# Altium footprint library 453lib.PcbLib: 18 footprints (part 1 of 2)
Each footprint in its own frame and in the unit in brackets; x right, y up, seen from the top. Pads: shape width x height; smd on the part's side, far side on the other; paste and mask are expansions set on the pad; w line width, h text height; cw(c..) or ccw(c..) is an arc to the next point about the centre after c.
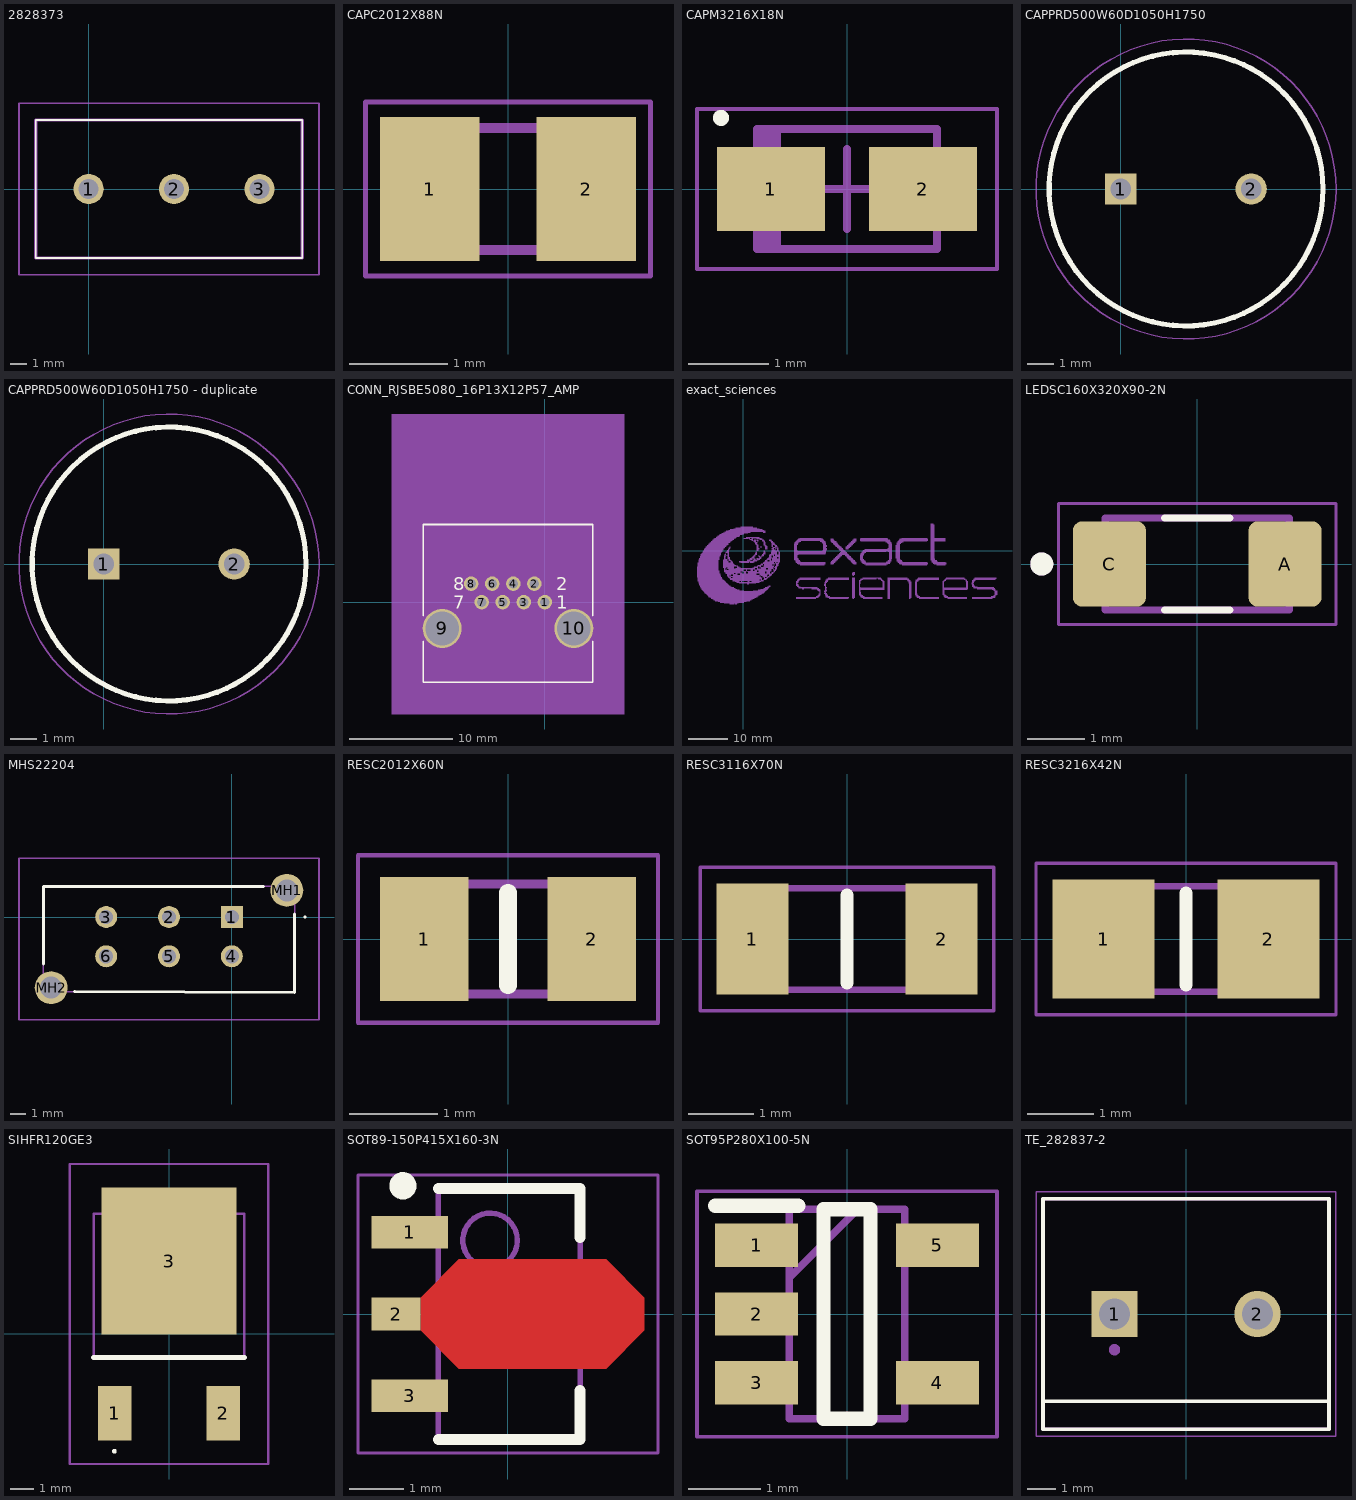
[diagram p0: the footprints below, top view; thin cyan lines are the x and y axes]

## 2828373 [mm]
pads (3):
  round 1.8 hole 1.2: 1(0,0) 2(5.08,0) 3(10.16,0)
Top Overlay:
  lines w0.1: -3.14,-4.1 -3.14,4.1 12.7,4.1 12.7,-4.1 -3.14,-4.1
Mechanical 13:
  lines w0.2: -3.14,-4.1 -3.14,4.1 12.7,4.1 12.7,-4.1 -3.14,-4.1
Mechanical 15:
  lines w0.1: -4.14,-5.1 -4.14,5.1 13.7,5.1 13.7,-5.1 -4.14,-5.1
3D body "282837-3.stp": height 9.97, standoff -3.53, extent -3.14,-4.1 12.7,4.1

## CAPC2012X88N [mm]
pads (2):
  rect 1.02x1.47 smd: 1(-0.8,0) 2(0.8,0)
Mechanical 13:
  lines w0.1: -1,-0.625 1,-0.625 1,0.625 -1,0.625 -1,-0.625
Mechanical 15:
  lines w0.05: -1.46,-0.89 1.46,-0.89 1.46,0.89 -1.46,0.89 -1.46,-0.89
3D body "C0805C104K8RACAUTO.stp": height 0.88, standoff 0, extent -1,-0.625 1,0.625

## CAPM3216X18N [mm]
height 1.2
pads (2):
  rect 1.35x1.05 smd: 1(-0.95,0) 2(0.95,0)
Top Overlay:
  circle w0.1: c-1.575,0.889 r0.05
Mechanical 13:
  rectangle: -1.125,-0.75 -0.822,0.75
  lines w0.1: -1.125,-0.75 1.125,-0.75 1.125,0.75 -1.125,0.75 -1.125,-0.75
Mechanical 15:
  lines w0.05: -1.875,-1 1.875,-1 1.875,1 -1.875,1 -1.875,-1
  lines w0.1: -0.5,0 0.5,0 ; 0,-0.5 0,0.5
3D body: height 1.2, standoff 0, extent -1.125,-0.75 1.125,0.75

## CAPPRD500W60D1050H1750 [mm]
pads (2):
  rect 1.2x1.2 hole 0.8: 1(0,0)
  round 1.2 hole 0.8: 2(5,0)
Top Overlay:
  circle w0.2: c2.5,0 r5.25
Mechanical 13:
  circle w0.1: c2.5,0 r5.25
Mechanical 15:
  circle w0.05: c2.5,0 r5.75
3D body "MAL213668101E3.stp": height 17.5, standoff -10, extent -2.75,-5.247 7.75,5.247

## CAPPRD500W60D1050H1750 - duplicate [mm]
pads (2):
  rect 1.2x1.2 hole 0.8: 1(0,0)
  round 1.2 hole 0.8: 2(5,0)
Top Overlay:
  circle w0.2: c2.5,0 r5.25
Mechanical 13:
  circle w0.1: c2.5,0 r5.25
Mechanical 15:
  circle w0.05: c2.5,0 r5.75
3D body "MAL213668101E3.stp": height 17.5, standoff -10, extent -2.75,-5.247 7.75,5.247

## CONN_RJSBE5080_16P13X12P57_AMP [mil]
pads (10):
  round 55 hole 35 mask+0: 1(0,0) 2(-40,70) 3(-80,0) 4(-120,70) 5(-160,0) 6(-200,70) 7(-240,0) 8(-280,70)
  round 148 hole 128: 9(-390,-100) 10(110,-100)
Top Overlay:
  lines w6: -462.5,-148.27 -462.5,-305 182.5,-305 182.5,-148.27 ; -462.5,-51.73 -462.5,295 182.5,295 182.5,-51.73
  text "8" at -347.5,45 h50
  text "7" at -347.5,-25 h50
  text "2" at 42.5,45 h50
  text "1" at 42.5,-25 h50
Mechanical 5:
  region: -582.5,715 302.5,715 302.5,-425 -582.5,-425
Mechanical 13:
  lines w1: -25,-300 0,-350 25,-300 ; -457.5,-300 -457.5,290 177.5,290 177.5,-300 -457.5,-300
  text "8" at -347.5,45 h50
  text "7" at -347.5,-25 h50
  text "2" at 42.5,45 h50
  text "1" at 42.5,-25 h50
Mechanical 15:
  region: -474,300 -474,-310 194,-310 194,300
  lines w6: -474,-310 -474,300 194,300 194,-310 -474,-310
3D body: height 10, standoff 0, extent 0,0 10,10

## exact_sciences [mm]
Bottom Overlay:
  drawing of 26 lines, arcs and shapes, not listed

## LEDSC160X320X90-2N [mm] "Red Clear status LED"
pads (2):
  rrect25% 1.27x1.48 smd: A(1.525,0) C(-1.525,0)
Top Overlay:
  circle w0.2: c-2.7,0 r0.1
  lines w0.127: -0.57,-0.8 0.57,-0.8 ; -0.57,0.8 0.57,0.8
Mechanical 13:
  circle w0.2: c-2.7,0 r0.1
  lines w0.127: -1.6,-0.8 1.6,-0.8 1.6,0.8 -1.6,0.8 -1.6,-0.8
Mechanical 15:
  lines w0.05: -2.41,-1.05 -2.41,1.05 2.41,1.05 2.41,-1.05 -2.41,-1.05
3D body "step_temp.STEP": height 0.7, standoff 0, extent -1.6,-0.8 1.6,0.8

## MHS22204 [mm]
pads (8):
  rect 1.4x1.4 hole 0.9: 1(0,0)
  round 1.4 hole 0.9: 2(-4,0) 3(-8,0) 4(0,-2.5) 5(-4,-2.5) 6(-8,-2.5)
  round 2.1 hole 1.4: MH1(3.5,1.7) MH2(-11.5,-4.5)
Top Overlay:
  lines w0.1: 4.6,0 cw(c4.65,0) 4.7,0 cw(c4.65,0) 4.6,0
  lines w0.2: -12,-3 -12,1.95 2,1.95 ; -10,-4.75 4,-4.8 4,0.2
Mechanical 13:
  lines w0.1: -12,-4.75 4,-4.75 4,1.95 -12,1.95 -12,-4.75
Mechanical 15:
  lines w0.1: -13.55,-6.55 5.55,-6.55 5.55,3.75 -13.55,3.75 -13.55,-6.55
3D body "MHS22204.stp": height 12.1, standoff -5, extent -12.095,-5.099 4.1,2.299

## RESC2012X60N [mm]
pads (2):
  rect 1x1.4 smd: 1(-0.95,0) 2(0.95,0)
Top Overlay:
  lines w0.2: 0,-0.525 0,0.525
Mechanical 13:
  lines w0.1: -1,-0.625 1,-0.625 1,0.625 -1,0.625 -1,-0.625
Mechanical 15:
  lines w0.05: -1.7,-0.95 1.7,-0.95 1.7,0.95 -1.7,0.95 -1.7,-0.95
3D body "CR0805-JW-510ELF.stp": height 0.6, standoff 0, extent -1,-0.625 1,0.625

## RESC3116X70N [mm]
pads (2):
  rect 1.1x1.7 smd: 1(-1.45,0) 2(1.45,0)
Top Overlay:
  lines w0.2: 0,-0.675 0,0.675
Mechanical 13:
  lines w0.1: -1.562,-0.775 -1.562,0.775 1.562,0.775 1.562,-0.775 -1.562,-0.775
Mechanical 15:
  lines w0.05: -2.25,-1.1 -2.25,1.1 2.25,1.1 2.25,-1.1 -2.25,-1.1
3D body "ERJ-8GEYJ102V.stp": height 0.7, standoff 0, extent -1.562,-0.775 1.562,0.775

## RESC3216X42N [mm]
pads (2):
  rect 1.55x1.8 smd: 1(-1.25,0) 2(1.25,0)
Top Overlay:
  lines w0.2: 0,-0.7 0,0.7
Mechanical 13:
  lines w0.1: -1.6,-0.8 1.6,-0.8 1.6,0.8 -1.6,0.8 -1.6,-0.8
Mechanical 15:
  lines w0.05: -2.275,-1.15 2.275,-1.15 2.275,1.15 -2.275,1.15 -2.275,-1.15
3D body "PMR18EZPJ000.stp": height 0.42, standoff 0, extent -1.6,-0.8 1.6,0.8

## SIHFR120GE3 [mil]
pads (3):
  rect 55x90 smd: 1(-90,-131.69) 2(90,-131.69)
  rect 224.02x243.31 smd: 3(0,120.24)
Top Overlay:
  lines w3.94: -90.55,-196.85 ccw(c-90.55,-194.88) -90.55,-192.91 ccw(c-90.55,-194.88) -90.55,-196.85
  lines w7.87: -125,-39.37 125,-39.37
Mechanical 13:
  lines w3.94: -125,-39.37 -125,198.82 125,198.82 125,-39.37 -125,-39.37
Mechanical 15:
  lines w3.94: -164.37,-216.06 -164.37,281.26 164.37,281.26 164.37,-216.06 -164.37,-216.06

## SOT89-150P415X160-3N [mm] "SOT89, 3-Leads, Body 4.50x2.50mm, Pitch 1.50mm, Lead Span 4.2mm, IPC Medium Density"
height 1.6
pads (3):
  rect 1.4x0.6 smd: 1(-1.8,1.5) 3(-1.8,-1.5)
  rect 0.9x0.6 smd: 2(-2.05,0)
Top Layer:
  region: -1.6,0.3 -0.9,1 1.8,1 2.5,0.3 2.5,-0.3 1.8,-1 -0.9,-1 -1.6,-0.3
Top Overlay:
  circle w0.25: c-1.927,2.35 r0.125
  lines w0.2: -1.277,-2.3 1.323,-2.3 1.323,-1.4 ; -1.277,2.3 1.323,2.3 1.323,1.4
Mechanical 13:
  circle w0.1: c-0.327,1.35 r0.5
  lines w0.1: -1.277,-2.3 1.323,-2.3 1.323,2.3 -1.277,2.3 -1.277,-2.3
Mechanical 15:
  lines w0.05: -2.75,-2.55 2.75,-2.55 2.75,2.55 -2.75,2.55 -2.75,-2.55
  lines w0.1: -0.477,0 0.523,0 ; 0.023,-0.5 0.023,0.5
3D body: height 1.6, standoff 0, extent -1.277,-2.3 1.323,2.3

## SOT95P280X100-5N [mm]
pads (5):
  rect 1.15x0.6 smd: 1(-1.25,0.95) 2(-1.25,0) 3(-1.25,-0.95) 4(1.25,-0.95) 5(1.25,0.95)
Top Overlay:
  lines w0.2: -1.825,1.5 -0.675,1.5 ; -0.325,-1.45 -0.325,1.45 0.325,1.45 0.325,-1.45 -0.325,-1.45
Mechanical 13:
  lines w0.1: -0.8,0.5 0.15,1.45 ; -0.8,-1.45 -0.8,1.45 0.8,1.45 0.8,-1.45 -0.8,-1.45
Mechanical 15:
  lines w0.05: -2.075,-1.7 -2.075,1.7 2.075,1.7 2.075,-1.7 -2.075,-1.7
3D body "ADP160AUJZ-3.0-R7.stp": height 0, standoff 0, extent 0,0 0,0

## TE_282837-2 [mm] "Side entr dual screw down wire"
pads (2):
  rect 1.65x1.65 hole 1.1: 1(-2.54,0)
  round 1.65 hole 1.1: 2(2.54,0)
Top Overlay:
  lines w0.127: -5.08,-3.1 -5.08,-4.1 5.08,-4.1 5.08,-3.1 ; -5.08,-3.1 -5.08,4.1 5.08,4.1 5.08,-3.1 ; -5.08,-3.1 5.08,-3.1
Mechanical 13:
  circle w0.2: c-2.54,-1.27 r0.1
  lines w0.127: -5.08,-4.1 5.08,-4.1 5.08,4.1 -5.08,4.1 -5.08,-4.1
Mechanical 15:
  lines w0.05: -5.33,-4.35 5.33,-4.35 5.33,4.35 -5.33,4.35 -5.33,-4.35
3D body "step_temp.STEP": height 7.25, standoff -6.25, extent -5.38,-4.009 5.38,4.191